# Altium footprint library UKU20204.PcbLib: 41 footprints (part 2 of 3)
Each footprint in its own frame and in the unit in brackets; x right, y up, seen from the top. Pads: shape width x height; smd on the part's side, far side on the other; paste and mask are expansions set on the pad; w line width, h text height; cw(c..) or ccw(c..) is an arc to the next point about the centre after c.
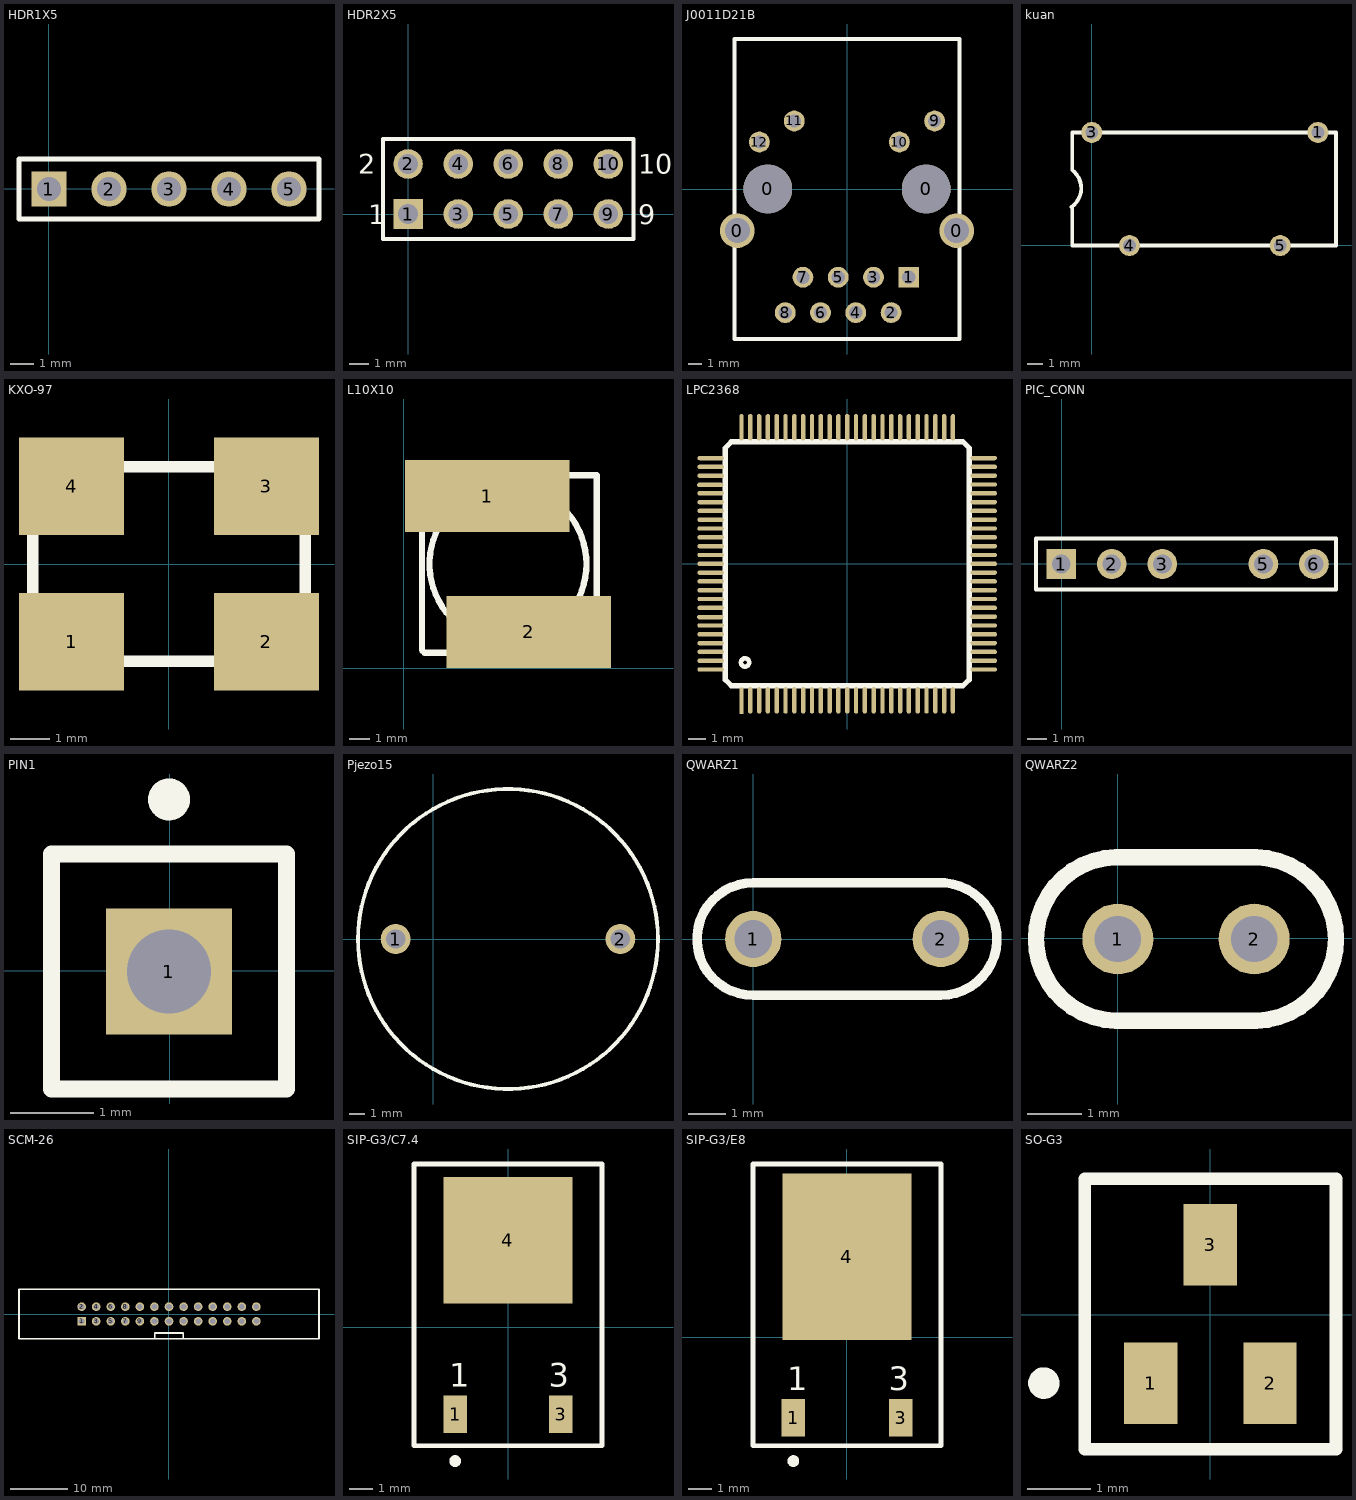
[diagram p1: the footprints below, top view; thin cyan lines are the x and y axes]

## HDR1X5 [mm]
pads (5):
  rect 1.5x1.5 hole 1: 1(0.006,-0.008)
  round 1.5 hole 1: 2(2.546,-0.008) 3(5.086,-0.008) 4(7.626,-0.008) 5(10.166,-0.008)
Top Overlay:
  lines w0.2: -1.264,-1.278 -1.264,1.262 11.436,1.262 11.436,-1.278 -1.264,-1.278

## HDR2X5 [mm]
pads (10):
  rect 1.5x1.5 hole 1: 1(-0.012,0.005)
  round 1.5 hole 1: 2(-0.012,2.545) 3(2.528,0.005) 4(2.528,2.545) 5(5.068,0.005) 6(5.068,2.545) 7(7.608,0.005) 8(7.608,2.545) 9(10.148,0.005) 10(10.148,2.545)
Top Overlay:
  lines w0.2: -1.282,-1.265 11.418,-1.265 11.418,3.815 -1.282,3.815 -1.282,-1.265
  text "10" at 11.672,2.037 h1
  text "9" at 11.672,-0.503 h1
  text "1" at -2.044,-0.503 h1
  text "2" at -2.552,2.037 h1

## J0011D21B [mm]
pads (16):
  round 2.5 hole 1.8: 0(-7.91,-2.998) 0(7.89,-2.998)
  round 3.5 hole 3.5: 0(-5.71,0.002) 0(5.69,0.002)
  rect 1.5x1.5 hole 0.95: 1(4.435,-6.348)
  round 1.5 hole 0.95: 2(3.165,-8.898) 3(1.895,-6.348) 4(0.625,-8.898) 5(-0.645,-6.348) 6(-1.915,-8.898) 7(-3.185,-6.348) 8(-4.455,-8.898) 9(6.3,4.902) 10(3.76,3.382) 11(-3.81,4.902) 12(-6.32,3.382)
Top Overlay:
  lines w0.3: -8.11,-10.798 -0.01,-10.798 8.09,-10.798 8.09,0.002 8.09,10.802 -0.01,10.802 -8.11,10.802 -8.11,0.002 -8.11,-10.798

## kuan [mm]
pads (4):
  round 1.4 hole 0.85: 1(15.018,7.483) 3(0.018,7.483) 4(2.518,-0.017) 5(12.518,-0.017)
Top Overlay:
  lines w0.254: -1.328,2.549 ccw(c-2.182,3.783) -1.282,4.983 -1.282,7.483 0.018,7.483 15.018,7.483 16.218,7.483 16.218,-0.017 15.018,-0.017 0.018,-0.017 -1.282,-0.017 -1.282,2.483

## KXO-97 [mm]
pads (4):
  rect 2.7x2.5 smd: 1(-2.496,-1.999) 2(2.504,-1.999) 3(2.504,2.001) 4(-2.496,2.001)
Top Overlay:
  lines w0.3: -3.496,-2.499 0.004,-2.499 3.504,-2.499 3.504,0.001 3.504,2.501 0.004,2.501 -3.496,2.501 -3.496,0.001 -3.496,-2.499

## L10X10 [mm]
pads (2):
  rect 8x3.5 smd: 1(4.057,8.384) 2(6.089,1.78)
Top Overlay:
  circle w0.3: c5.073,5.082 r3.821
  lines w0.3: 0.882,0.891 1.009,0.764 9.01,0.764 9.137,0.764 9.391,0.764 9.391,7.876 9.391,9.273 9.391,9.4 0.882,9.4 0.882,0.891

## LPC2368 [mm]
pads (100):
  rect 0.25x1.5 smd: 1(-5.993,-7.781)
  oval 0.25x1.5 smd: 2(-5.493,-7.756) 3(-4.993,-7.756) 4(-4.493,-7.756) 5(-3.993,-7.756) 6(-3.493,-7.756) 7(-2.993,-7.756) 8(-2.493,-7.756) 9(-1.993,-7.756) 10(-1.493,-7.756) 11(-0.993,-7.756) 12(-0.493,-7.756) 13(0.007,-7.756) 14(0.507,-7.756) 15(1.007,-7.756) 16(1.507,-7.756) 17(2.007,-7.756) 18(2.507,-7.756) 19(3.007,-7.756) 20(3.507,-7.756) 21(4.007,-7.756) 22(4.507,-7.756) 23(5.007,-7.756) 24(5.507,-7.756) 25(6.007,-7.756) 51(6.007,7.744) 52(5.507,7.744) 53(5.007,7.744) 54(4.507,7.744) 55(4.007,7.744) 56(3.507,7.744) 57(3.007,7.744) 58(2.507,7.744) 59(2.007,7.744) 60(1.507,7.744) 61(1.007,7.744) 62(0.507,7.744) 63(0.007,7.744) 64(-0.493,7.744) 65(-0.993,7.744) 66(-1.493,7.744) 67(-1.993,7.744) 68(-2.493,7.744) 69(-2.993,7.744) 70(-3.493,7.744) 71(-3.993,7.744) 72(-4.493,7.744) 73(-4.993,7.744) 74(-5.493,7.744) 75(-5.993,7.744)
  oval 1.5x0.25 smd: 26(7.757,-6.006) 27(7.757,-5.506) 28(7.757,-5.006) 29(7.757,-4.506) 30(7.757,-4.006) 31(7.757,-3.506) 32(7.757,-3.006) 33(7.757,-2.506) 34(7.757,-2.006) 35(7.757,-1.506) 36(7.757,-1.006) 37(7.757,-0.506) 38(7.757,-0.006) 39(7.757,0.494) 40(7.757,0.994) 41(7.757,1.494) 42(7.757,1.994) 43(7.757,2.494) 44(7.757,2.994) 45(7.757,3.494) 46(7.757,3.994) 47(7.757,4.494) 48(7.757,4.994) 49(7.757,5.494) 50(7.757,5.994) 76(-7.743,5.994) 77(-7.743,5.494) 78(-7.743,4.994) 79(-7.768,4.469) 80(-7.743,3.994) 81(-7.743,3.494) 82(-7.743,2.994) 83(-7.743,2.494) 84(-7.743,1.994) 85(-7.743,1.494) 86(-7.743,0.994) 87(-7.743,0.494) 88(-7.743,-0.006) 89(-7.743,-0.506) 90(-7.743,-1.006) 91(-7.743,-1.506) 92(-7.743,-2.006) 93(-7.743,-2.506) 94(-7.768,-3.031) 95(-7.743,-3.506) 96(-7.743,-4.006) 97(-7.743,-4.506) 98(-7.743,-5.006) 99(-7.743,-5.506) 100(-7.743,-6.006)
Top Overlay:
  circle w0.254: c-5.793,-5.606 r0.236
  lines w0.3: -6.918,-6.481 -6.918,-0.006 -6.918,6.544 ; -6.918,-6.431 -6.918,-6.581 -6.568,-6.931 -6.543,-6.931 0.007,-6.931 6.482,-6.931 ; -6.918,6.569 -6.568,6.919 ; -6.468,6.919 0.007,6.919 6.557,6.919 ; 6.582,-6.931 6.932,-6.581 ; 6.582,6.919 6.932,6.569 ; 6.932,-6.556 6.932,-0.006 6.932,6.469

## PIC_CONN [mm]
pads (5):
  rect 1.5x1.5 hole 0.95: 1(-0.022,-0.011)
  round 1.5 hole 0.95: 2(2.518,-0.011) 3(5.058,-0.011) 5(10.138,-0.011) 6(12.678,-0.011)
Top Overlay:
  lines w0.2: -1.292,-1.281 -1.292,1.259 13.788,1.259 13.788,-1.281 -1.292,-1.281

## PIN1 [mm]
pads (1):
  rect 1.5x1.5 hole 1: 1(-0.007,-0.008)
Top Overlay:
  circle w0.25: c-0.007,2.042 r0.125
  lines w0.2: -1.407,-1.408 -1.407,1.392 1.393,1.392 1.393,-1.408 -1.407,-1.408

## Pjezo15 [mm]
pads (2):
  round 2 hole 1.3: 1(-2.509,0.003) 2(12.491,0.003)
Top Overlay:
  circle w0.254: c4.991,0.003 r10.012

## QWARZ1 [mm]
pads (2):
  round 1.5 hole 1: 1(0.002,0.008) 2(5.002,0.008)
Top Overlay:
  lines w0.254: 4.902,1.505 cw(c5.002,0.008) 5.002,-1.492 0.002,-1.492 cw(c0.002,0.008) 0.002,1.508 5.002,1.508

## QWARZ2 [mm]
pads (2):
  round 1.3 hole 0.85: 1(-0.001,-0.009) 2(2.499,-0.009)
Top Overlay:
  lines w0.3: -0.041,-1.509 cw(c-0.001,-0.009) -0.041,1.491 2.539,1.491 cw(c2.499,-0.009) 2.539,-1.509 -0.041,-1.509

## SCM-26 [mm]
pads (26):
  rect 1.5x1.5 hole 1: 1(-15.214,-1.221)
  round 1.5 hole 1: 2(-15.214,1.319) 3(-12.674,-1.221) 4(-12.674,1.319) 5(-10.134,-1.221) 6(-10.134,1.319) 7(-7.594,-1.221) 8(-7.594,1.319) 9(-5.054,-1.221) 10(-5.054,1.319) 11(-2.514,-1.221) 12(-2.514,1.319) 13(0.026,-1.221) 14(0.026,1.319) 15(2.566,-1.221) 16(2.566,1.319) 17(5.106,-1.221) 18(5.101,1.324) 19(7.646,-1.221) 20(7.646,1.319) 21(10.186,-1.221) 22(10.186,1.319) 23(12.726,-1.221) 24(12.726,1.319) 25(15.266,-1.221) 26(15.251,1.324)
Top Overlay:
  lines w0.3: -2.474,-4.251 -2.474,-3.251 2.526,-3.251 2.526,-4.251 ; -26.134,-4.251 26.186,-4.251 26.186,4.349 -26.134,4.349 -26.134,0.049 -26.134,-4.251

## SIP-G3/C7.4 [mm]
pads (3):
  rect 1x1.6 smd: 1(-2.262,-3.69) 3(2.238,-3.69)
  rect 5.5x5.4 smd: 4(-0.012,3.71)
Top Overlay:
  circle w0.25: c-2.262,-5.69 r0.125
  lines w0.2: -4.012,-5.04 -4.012,6.96 3.988,6.96 3.988,-5.04 -4.012,-5.04
  text "1" at -2.512,-2.515 h1
  text "3" at 1.731,-2.515 h1

## SIP-G3/E8 [mm]
pads (3):
  rect 1x1.6 smd: 1(-2.284,-3.417) 3(2.286,-3.417)
  rect 5.5x7.1 smd: 4(0.001,3.433)
Top Overlay:
  circle w0.25: c-2.284,-5.267 r0.125
  lines w0.2: -3.999,-4.617 -3.999,7.383 4.001,7.383 4.001,-4.617 -3.999,-4.617
  text "3" at 1.789,-2.242 h1
  text "1" at -2.539,-2.242 h1

## SO-G3 [mm]
pads (3):
  rect 0.85x1.3 smd: 1(-0.949,-1.091) 2(0.951,-1.091) 3(0.001,1.109)
Top Overlay:
  circle w0.25: c-2.649,-1.091 r0.125
  lines w0.2: -1.999,-2.141 2.001,-2.141 2.001,2.159 -1.999,2.159 -1.999,-2.141